# Altium schematic symbol library MKP1F044706J00JSSD.SchLib: 1 symbol
Pins are listed as number, name and electrical type; pins without a type are passive.

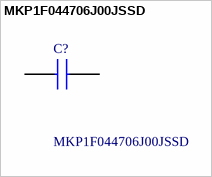
[diagram p0: symbol MKP1F044706J00JSSD]

## MKP1F044706J00JSSD
designator C?
Film Capacitors 4.7 uF 250 VDC 5%; Manufacturer_Name: WIMA; Geometry.Height: 39.5mm; Manufacturer_Part_Number: MKP1F044706J00JSSD; Mouser Part Number: 505-MKP1F044706J00JS; Mouser Price/Stock: https://www.mouser.co.uk/ProductDetail/WIMA/MKP1F044706J00JSSD?qs=dTJS0cRn7ogT%252BWsuB87WZQ%3D%3D; Arrow Part Number: *; Arrow Price/Stock: *; Datasheet Link: https://www.wima.de/wp-content/uploads/media/e_WIMA_MKP_10.pdf
footprint MKP1F044706J00JSSD
pins: 1, 2